# EAGLE library part HM-10 (library bt)
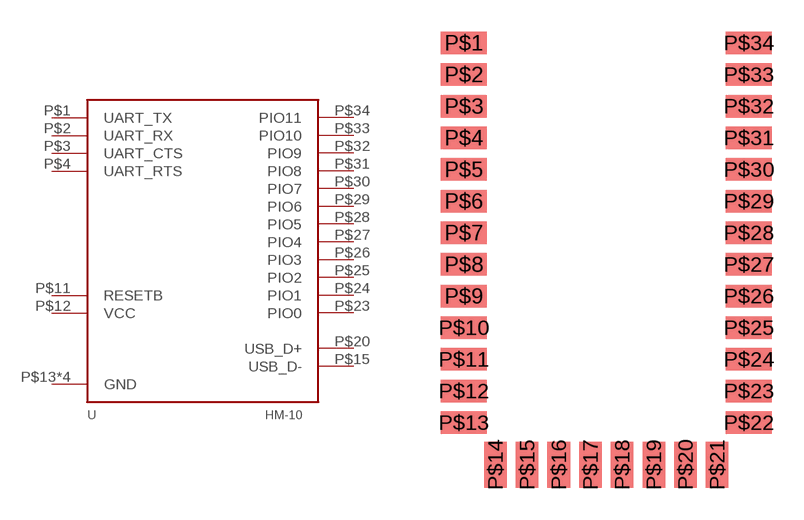
[diagram p0: symbol with the pads of HM-10; footprint HM-10]

Designator prefix -

## HM-10  [HM-10]
P$1  UART_TX
P$2  UART_RX
P$3  UART_CTS
P$4  UART_RTS
P$11  RESETB
P$12  VCC
P$13  GND
P$14  GND
P$15  USB_D-
P$20  USB_D+
P$21  GND
P$22  GND
P$23  PIO0
P$24  PIO1
P$25  PIO2
P$26  PIO3
P$27  PIO4
P$28  PIO5
P$29  PIO6
P$30  PIO7
P$31  PIO8
P$32  PIO9
P$33  PIO10
P$34  PIO11

## Footprint HM-10 (pad centres in mm)
smd 2.184 x 1.067: P$1 -6.75,0; P$2 -6.75,-1.5; P$3 -6.75,-3; P$4 -6.75,-4.5; P$5 -6.75,-6; P$6 -6.75,-7.5; P$7 -6.75,-9; P$8 -6.75,-10.5; P$9 -6.75,-12; P$10 -6.75,-13.5; P$11 -6.75,-15; P$12 -6.75,-16.5; P$13 -6.75,-18; P$22 6.75,-18; P$23 6.75,-16.5; P$24 6.75,-15; P$25 6.75,-13.5; P$26 6.75,-12; P$27 6.75,-10.5; P$28 6.75,-9; P$29 6.75,-7.5; P$30 6.75,-6; P$31 6.75,-4.5; P$32 6.75,-3; P$33 6.75,-1.5; P$34 6.75,0
smd 1.067 x 2.184: P$14 -5.25,-20; P$15 -3.75,-20; P$16 -2.25,-20; P$17 -0.75,-20; P$18 0.75,-20; P$19 2.25,-20; P$20 3.75,-20; P$21 5.25,-20